# EAGLE library part BQ27501 (library lm5007)
System-Side Impedance Track? Fuel Gauge Source: bq27500-v100.pdf
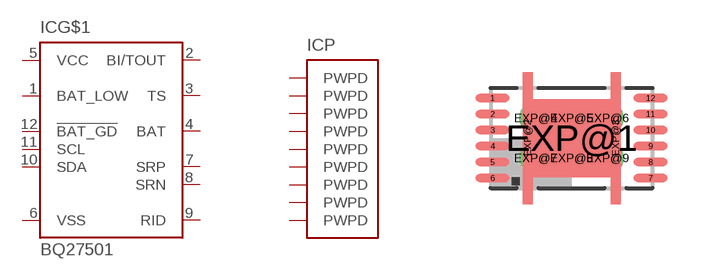
[diagram p49: symbol with the pads of DRZ; footprint DRZ]

Designator prefix IC; gates G$1=BQ27501 P=PWPD9

## BQ27501 (MPN: BQ27501DRZT; OC_FARNELL: 1710789; OC_NEWARK: 50P9379)  [DRZ]
1  G$1:BAT_LOW  out
2  G$1:BI/TOUT
3  G$1:TS  in
4  G$1:BAT  in
5  G$1:VCC  pwr
6  G$1:VSS  pwr
7  G$1:SRP  in
8  G$1:SRN  in
9  G$1:RID  in
10  G$1:SDA
11  G$1:SCL  in
12  G$1:!BAT_GD  out
EXP@1  P:PWPD  pwr
EXP@2  P:PWPD  pwr
EXP@3  P:PWPD  pwr
EXP@4  P:PWPD  pwr
EXP@5  P:PWPD  pwr
EXP@6  P:PWPD  pwr
EXP@7  P:PWPD  pwr
EXP@8  P:PWPD  pwr
EXP@9  P:PWPD  pwr

## Footprint DRZ (pad centres in mm)
DRZ (S-PDSO-N12) PLASTIC SMALL OUTLINE Source: bq27500-v100.pdf
smd 0.85 x 0.2: 1 -1.975,1; 2 -1.975,0.6; 3 -1.975,0.2; 4 -1.975,-0.2; 5 -1.975,-0.6; 6 -1.975,-1; 7 1.975,-1; 8 1.975,-0.6; 9 1.975,-0.2; 10 1.975,0.2; 11 1.975,0.6; 12 1.975,1
smd 2.45 x 1.95: EXP@1 0,0
smd 0.25 x 3.3: EXP@2 -1.1,0; EXP@3 1.1,0
drill 0.3 pad 0.406: EXP@4 -0.9,0.5; EXP@5 0,0.5; EXP@6 0.9,0.5; EXP@7 -0.9,-0.5; EXP@8 0,-0.5; EXP@9 0.9,-0.5